# EAGLE library part TP4056 (library LARS_409_MC)
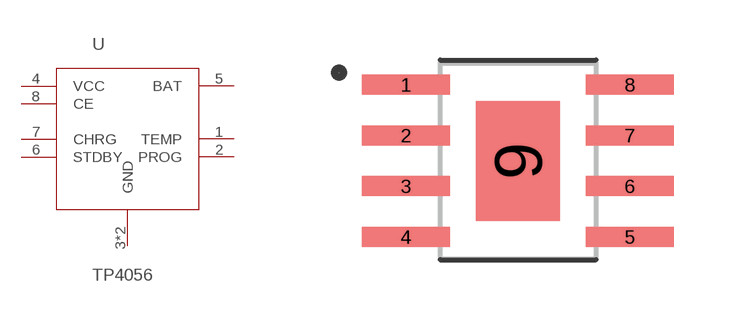
[diagram p22: symbol with the pads of HSOIC8; footprint HSOIC8]

Designator prefix U

## TP4056U  [HSOIC8]
1  TEMP
2  PROG
3  GND
4  VCC
5  BAT
6  STDBY
7  CHRG
8  CE
9  GND

## Footprint HSOIC8 (pad centres in mm)
8-SOIC, 1.27 mm pitch, 6.00 mm span, 4.90 X 3.90 X 1.70 mm body, 3.00 X 2.30 mm thermal pad 8-pin SOIC package with 1.27 mm pitch, 6.00 mm span with body size 4.90 X 3.90 X 1.70 mm and thermal pad size 3.00 X 2.30 mm
smd 2.2 x 0.5: 1 -2.8,1.905; 2 -2.8,0.635; 3 -2.8,-0.635; 4 -2.8,-1.905; 5 2.8,-1.905; 6 2.8,-0.635; 7 2.8,0.635; 8 2.8,1.905
smd 2.1 x 3: 9 0,0